# Altium schematic symbol library Switch.SchLib: 5 symbols
Pins are listed as number, name and electrical type; pins without a type are passive.

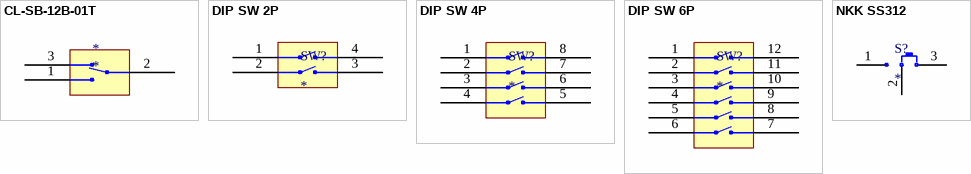
[diagram p0: symbols CL-SB-12B-01T to NKK SS312]

## CL-SB-12B-01T
designator *
pins: 1 GND, 2 GND, 3 GND

## DIP SW 2P
designator SW?
pins: 1 GND, 2 GND, 3 GND, 4 GND

## DIP SW 4P
designator SW?
pins: 1 GND, 2 GND, 3 GND, 4 GND, 5, 6, 7, 8

## DIP SW 6P
designator SW?
pins: 1 GND, 2 GND, 3 GND, 4 GND, 5, 6, 7, 8, 9, 10, 11, 12

## NKK SS312
designator S?
pins: 1, 2 COM, 3